# Altium schematic symbol library SCH - POWER - SWITCHMODE - TI TPS54294_PWP_16.SchLib: 1 symbol
Pins are listed as number, name and electrical type; pins without a type are passive.

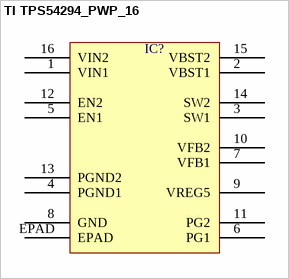
[diagram p0: symbol TI TPS54294_PWP_16]

## TI TPS54294_PWP_16
designator IC?  (value not drawn)
pins: 1 VIN1, 2 VBST1, 3 SW1, 4 PGND1, 5 EN1, 6 PG1, 7 VFB1, 8 GND, 9 VREG5, 10 VFB2, 11 PG2, 12 EN2, 13 PGND2, 14 SW2, 15 VBST2, 16 VIN2, EPAD